# Altium schematic symbol library test_points.SchLib: 1 symbol
Pins are listed as number, name and electrical type; pins without a type are passive.

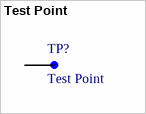
[diagram p0: symbol Test Point]

## Test Point
designator TP?  (no BOM)
PCB test point
footprint TEST_POINT_CIRCULAR_1MM (simple PCB test point, circular, 1mm diameter)
pins: 1